# EAGLE library part M29F800BB (library M29F800BB)
TSSOP-1-48
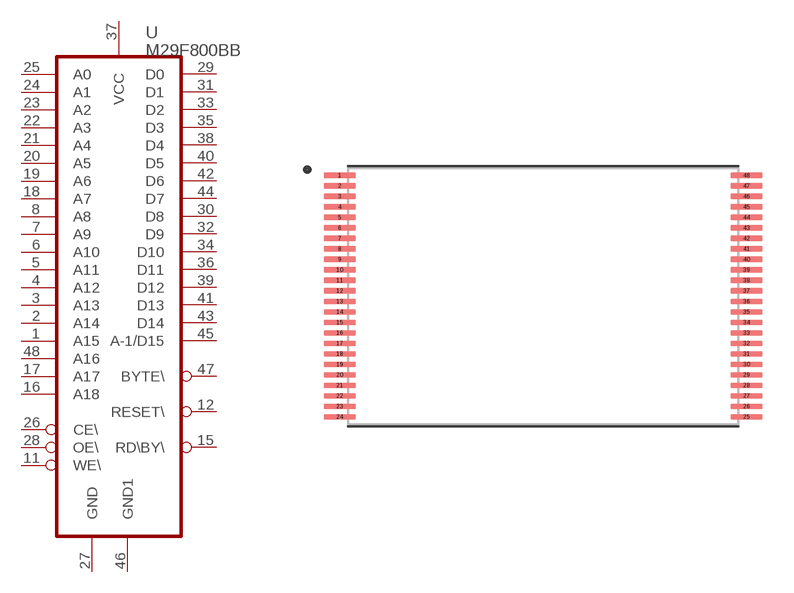
[diagram p0: symbol with the pads of M29F800BB; footprint M29F800BB]

Designator prefix U

## M29F800BB (A1_MIN: 0.1; A_MAX: 1.2; A_MIN: 1.2; A_NOM: 1.2; B_MAX: 0.27; B_MIN: 0.17; B_NOM: 0.22; D2_MAX: 0.0; D_MAX: 12.2; D_MIN: 11.8; D_NOM: 12.0; E1_MAX: 18.6; E1_MIN: 18.2; E1_NOM: 18.4; E2_MAX: 0.0; ENOM: 0.5; E_MAX: 20.2; E_MIN: 19.8; E_NOM: 20.0; L_MAX: 0.7; L_MIN: 0.5; L_NOM: 0.6; MANUFACTURER: ISSI; PIN_COUNT: 48.0; SNAPEDA_PACKAGE_ID: 27909; STANDARD: IPC 7351B)  [M29F800BB]
1  A15
2  A14
3  A13
4  A12
5  A11
6  A10
7  A9
8  A8
11  WE\\
12  RESET\\
15  RD\\BY\\
16  A18
17  A17
18  A7
19  A6
20  A5
21  A4
22  A3
23  A2
24  A1
25  A0
26  CE\\
27  GND
28  OE\\
29  D0
30  D8
31  D1
32  D9
33  D2
34  D10
35  D3
36  D11
37  VCC
38  D4
39  D12
40  D5
41  D13
42  D6
43  D14
44  D7
45  A-1/D15
46  GND1
47  BYTE\\
48  A16

## Footprint M29F800BB (pad centres in mm)
smd 1.54 x 0.28: 1 -9.69,5.75; 2 -9.69,5.25; 3 -9.69,4.75; 4 -9.69,4.25; 5 -9.69,3.75; 6 -9.69,3.25; 7 -9.69,2.75; 8 -9.69,2.25; 9 -9.69,1.75; 10 -9.69,1.25; 11 -9.69,0.75; 12 -9.69,0.25; 13 -9.69,-0.25; 14 -9.69,-0.75; 15 -9.69,-1.25; 16 -9.69,-1.75; 17 -9.69,-2.25; 18 -9.69,-2.75; 19 -9.69,-3.25; 20 -9.69,-3.75; 21 -9.69,-4.25; 22 -9.69,-4.75; 23 -9.69,-5.25; 24 -9.69,-5.75; 25 9.69,-5.75; 26 9.69,-5.25; 27 9.69,-4.75; 28 9.69,-4.25; 29 9.69,-3.75; 30 9.69,-3.25; 31 9.69,-2.75; 32 9.69,-2.25; 33 9.69,-1.75; 34 9.69,-1.25; 35 9.69,-0.75; 36 9.69,-0.25; 37 9.69,0.25; 38 9.69,0.75; 39 9.69,1.25; 40 9.69,1.75; 41 9.69,2.25; 42 9.69,2.75; 43 9.69,3.25; 44 9.69,3.75; 45 9.69,4.25; 46 9.69,4.75; 47 9.69,5.25; 48 9.69,5.75